# Altium footprint library PcbLib.PcbLib: 48 footprints (part 1 of 3)
Each footprint in its own frame and in the unit in brackets; x right, y up, seen from the top. Pads: shape width x height; smd on the part's side, far side on the other; paste and mask are expansions set on the pad; w line width, h text height; cw(c..) or ccw(c..) is an arc to the next point about the centre after c.
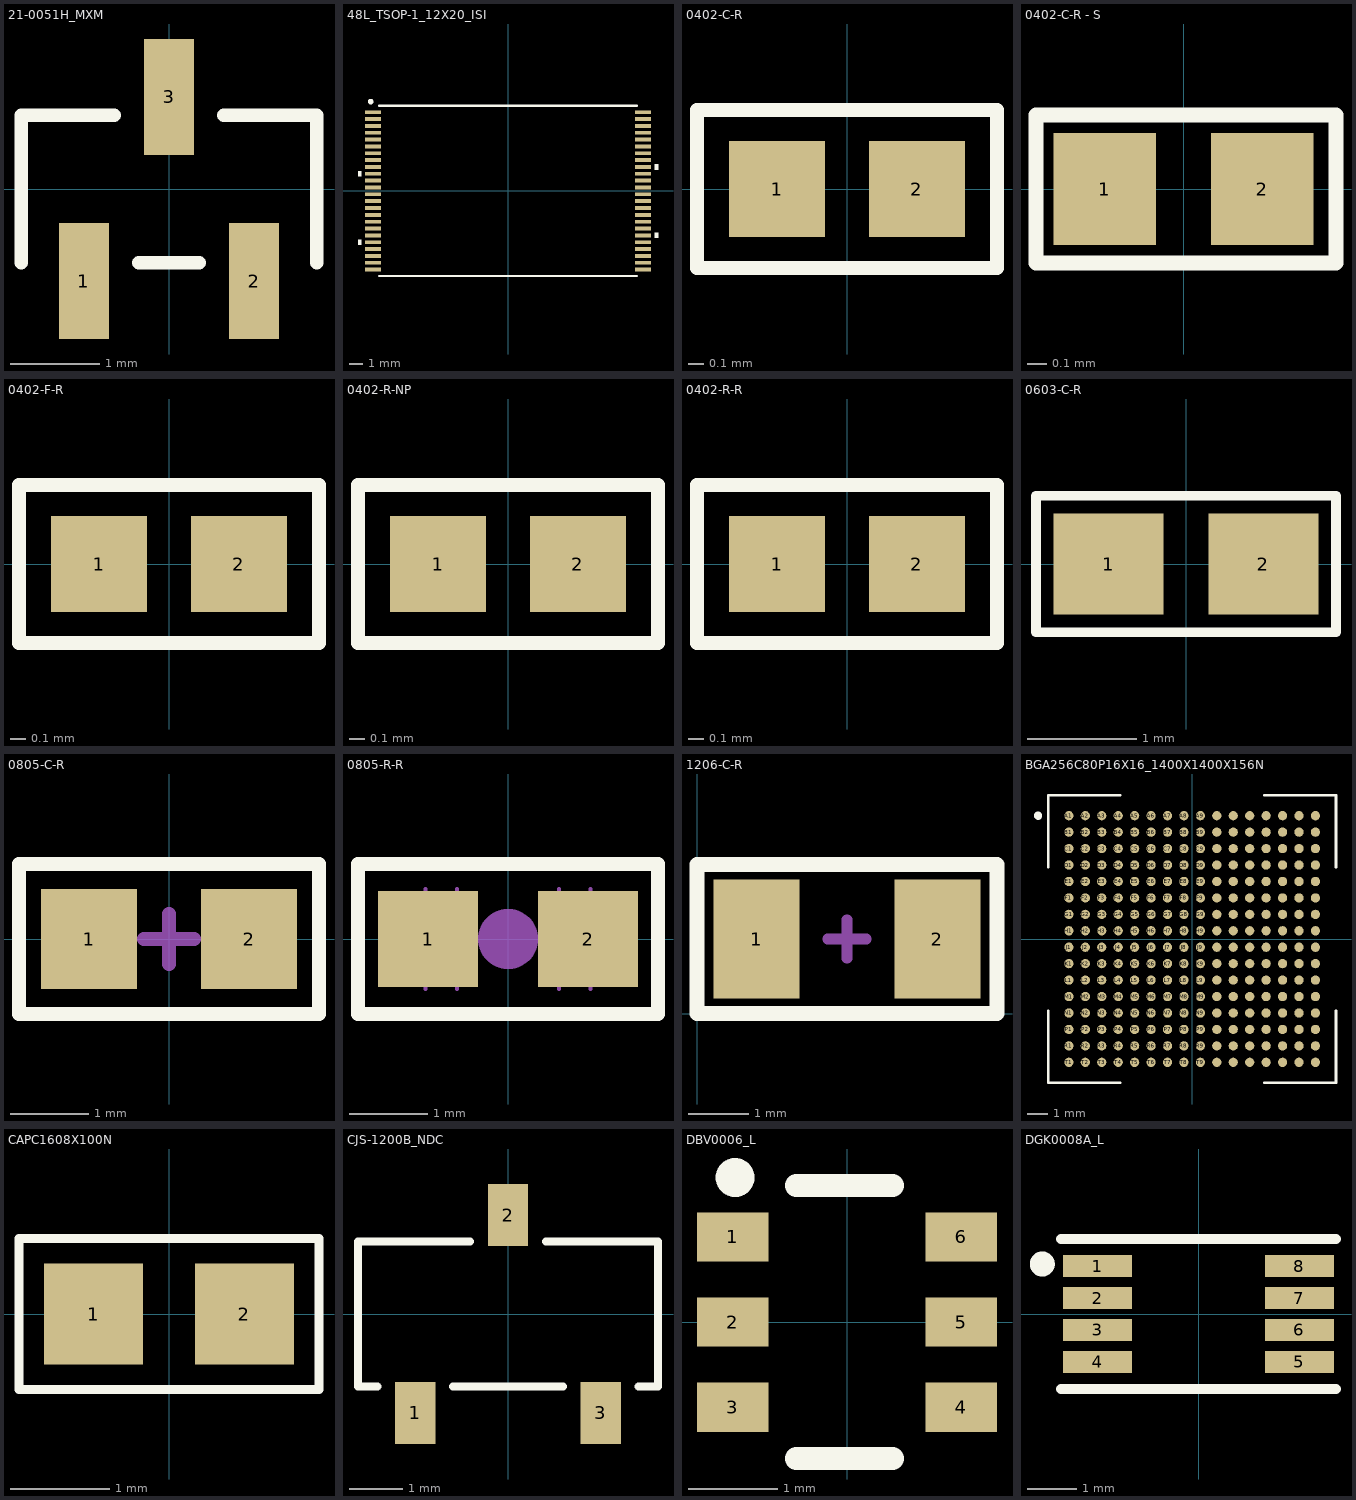
[diagram p0: the footprints below, top view; thin cyan lines are the x and y axes]

## 21-0051H_MXM [mil]
pads (3):
  rect 22x51 smd paste+0 mask+0: 1(-37.4,-40.5) 2(37.4,-40.5) 3(0,40.5)
Top Overlay:
  lines w6: -65,-32.5 -65,32.5 -24.1,32.5 ; -13.3,-32.5 13.3,-32.5 ; 24.1,32.5 65,32.5 65,-32.5
3D body "21-0051H_MXM.step": height 44.09, standoff 0, extent -60,-52.01 60,52.01

## 48L_TSOP-1_12X20_ISI [mil]
pads (48):
  rect 45.5x11 smd paste+0 mask+0: 1(-388.75,226.38) 2(-388.75,206.69) 3(-388.75,187.01) 4(-388.75,167.32) 5(-388.75,147.64) 6(-388.75,127.95) 7(-388.75,108.27) 8(-388.75,88.58) 9(-388.75,68.9) 10(-388.75,49.21) 11(-388.75,29.53) 12(-388.75,9.84) 13(-388.75,-9.84) 14(-388.75,-29.53) 15(-388.75,-49.21) 16(-388.75,-68.9) 17(-388.75,-88.58) 18(-388.75,-108.27) 19(-388.75,-127.95) 20(-388.75,-147.64) 21(-388.75,-167.32) 22(-388.75,-187.01) 23(-388.75,-206.69) 24(-388.75,-226.38) 25(388.75,-226.38) 26(388.75,-206.69) 27(388.75,-187.01) 28(388.75,-167.32) 29(388.75,-147.64) 30(388.75,-127.95) 31(388.75,-108.27) 32(388.75,-88.58) 33(388.75,-68.9) 34(388.75,-49.21) 35(388.75,-29.53) 36(388.75,-9.84) 37(388.75,9.84) 38(388.75,29.53) 39(388.75,49.21) 40(388.75,68.9) 41(388.75,88.58) 42(388.75,108.27) 43(388.75,127.95) 44(388.75,147.64) 45(388.75,167.32) 46(388.75,187.01) 47(388.75,206.69) 48(388.75,226.38)
Top Overlay:
  circle w10: c-395,257 r3
  region: -421.5,56.71 -431.5,56.71 -431.5,41.71 -421.5,41.71
  region: -421.5,-140.14 -431.5,-140.14 -431.5,-155.14 -421.5,-155.14
  region: 421.5,-120.45 431.5,-120.45 431.5,-135.45 421.5,-135.45
  region: 421.5,76.4 431.5,76.4 431.5,61.4 421.5,61.4
  lines w6: -371,-245 371,-245 ; -371,245 371,245
3D body "48L_TSOP-1_12X20_ISI.step": height 47.09, standoff 0, extent -397.52,-240 397.52,240

## 0402-C-R [mm]
height 1.52
pads (2):
  rect 0.62x0.62 smd: 1(-0.45,0) 2(0.45,0)
Top Overlay:
  lines w0.089: -0.965,-0.508 -0.965,0.508 0.965,0.508 0.965,-0.508 -0.965,-0.508
3D body "C0402C104K3RACTU.step": height 0.55, standoff 0, extent -0.518,-0.271 0.532,0.279

## 0402-C-R - S [mm]
height 1.52
pads (2):
  rect 0.52x0.57 smd mask+0: 1(-0.4,0) 2(0.4,0)
Top Overlay:
  lines w0.076: -0.75,-0.375 -0.75,0.375 0.775,0.375 0.775,-0.375 -0.75,-0.375
3D body "C0402C104K3RACTU.step": height 0.55, standoff 0, extent -0.525,-0.275 0.525,0.275

## 0402-F-R [mm]
height 1.52
pads (2):
  rect 0.62x0.62 smd: 1(-0.45,0) 2(0.45,0)
Top Overlay:
  lines w0.089: -0.965,-0.508 0.965,-0.508 0.965,0.508 -0.965,0.508 -0.965,-0.508
3D body "FB_1005.STEP": height 0.5, standoff 0, extent -0.5,-0.25 0.5,0.25

## 0402-R-NP [mm]
height 1.52
pads (2):
  rect 0.62x0.62 smd: 1(-0.45,0) 2(0.45,0)
Top Overlay:
  lines w0.089: -0.965,-0.508 0.965,-0.508 0.965,0.508 -0.965,0.508 -0.965,-0.508

## 0402-R-R [mm]
height 1.52
pads (2):
  rect 0.62x0.62 smd: 1(-0.45,0) 2(0.45,0)
Top Overlay:
  lines w0.089: -0.965,-0.508 -0.965,0.508 0.965,0.508 0.965,-0.508 -0.965,-0.508
3D body "User Library-User Library-RES0402-2.STEP": height 0.35, standoff 0, extent -0.5,-0.25 0.5,0.25

## 0603-C-R [mm]
pads (2):
  rect 1.01x0.93 smd: 1(-0.709,0) 2(0.709,0)
Top Overlay:
  lines w0.089: -1.375,-0.625 -1.375,0.625 1.375,0.625 1.375,-0.625 -1.375,-0.625
3D body "step_temp.STEP": height 1, standoff 0, extent -0.8,-0.4 0.8,0.4

## 0805-C-R [mil]
height 59.84
pads (2):
  rect 48x50 smd: 1(-40,0) 2(40,0)
Top Overlay:
  lines w7: -75,-37.5 -75,37.5 75,37.5 75,-37.5 -75,-37.5
Mechanical 16:
  lines w7: -12.5,0 12.5,0 ; 0,-12.5 0,12.5
3D body "0805 SMD Capacitor.STEP": height 30.79, standoff 0, extent -38.37,-24.21 40.37,25

## 0805-R-R [mil]
height 59.84
pads (2):
  rect 50x48 smd: 1(-40,0) 2(40,0)
Top Overlay:
  lines w7: -75,-37.5 75,-37.5 75,37.5 -75,37.5 -75,-37.5
Mechanical 9:
  circle w20: c0,0 r5
Mechanical 11:
  lines w2: -41.34,-25 -41.34,25 ; -25.59,-25 -25.59,25 ; 25.59,-25 25.59,25 ; 41.34,-25 41.34,25
3D body "SW3dPS-0805 SMD Resistor.STEP": height 30.79, standoff 0, extent -39.37,-24 39.37,25.21

## 1206-C-R [mm]
height 1.52
pads (2):
  rect 1.42x1.96 smd: 1(0.985,1.23) 2(3.965,1.23)
Top Overlay:
  lines w0.254: 0,0 0,2.46 4.95,2.46 4.95,0 0,0
Mechanical 16:
  lines w0.178: 2.157,1.23 2.792,1.23 ; 2.475,0.913 2.475,1.548
3D body "C1206X335K8RACAUTO.step": height 1.2, standoff 0, extent 0.614,0.254 4.314,2.204

## BGA256C80P16X16_1400X1400X156N [mm]
pads (256):
  round 0.45 smd: A1(-6,6) A2(-5.2,6) A3(-4.4,6) A4(-3.6,6) A5(-2.8,6) A6(-2,6) A7(-1.2,6) A8(-0.4,6) A9(0.4,6) A10(1.2,6) A11(2,6) A12(2.8,6) A13(3.6,6) A14(4.4,6) A15(5.2,6) A16(6,6) B1(-6,5.2) B2(-5.2,5.2) B3(-4.4,5.2) B4(-3.6,5.2) B5(-2.8,5.2) B6(-2,5.2) B7(-1.2,5.2) B8(-0.4,5.2) B9(0.4,5.2) B10(1.2,5.2) B11(2,5.2) B12(2.8,5.2) B13(3.6,5.2) B14(4.4,5.2) B15(5.2,5.2) B16(6,5.2) C1(-6,4.4) C2(-5.2,4.4) C3(-4.4,4.4) C4(-3.6,4.4) C5(-2.8,4.4) C6(-2,4.4) C7(-1.2,4.4) C8(-0.4,4.4) C9(0.4,4.4) C10(1.2,4.4) C11(2,4.4) C12(2.8,4.4) C13(3.6,4.4) C14(4.4,4.4) C15(5.2,4.4) C16(6,4.4) D1(-6,3.6) D2(-5.2,3.6) D3(-4.4,3.6) D4(-3.6,3.6) D5(-2.8,3.6) D6(-2,3.6) D7(-1.2,3.6) D8(-0.4,3.6) D9(0.4,3.6) D10(1.2,3.6) D11(2,3.6) D12(2.8,3.6) D13(3.6,3.6) D14(4.4,3.6) D15(5.2,3.6) D16(6,3.6) E1(-6,2.8) E2(-5.2,2.8) E3(-4.4,2.8) E4(-3.6,2.8) E5(-2.8,2.8) E6(-2,2.8) E7(-1.2,2.8) E8(-0.4,2.8) E9(0.4,2.8) E10(1.2,2.8) E11(2,2.8) E12(2.8,2.8) E13(3.6,2.8) E14(4.4,2.8) E15(5.2,2.8) E16(6,2.8) F1(-6,2) F2(-5.2,2) F3(-4.4,2) F4(-3.6,2) F5(-2.8,2) F6(-2,2) F7(-1.2,2) F8(-0.4,2) F9(0.4,2) F10(1.2,2) F11(2,2) F12(2.8,2) F13(3.6,2) F14(4.4,2) F15(5.2,2) F16(6,2) G1(-6,1.2) G2(-5.2,1.2) G3(-4.4,1.2) G4(-3.6,1.2) G5(-2.8,1.2) G6(-2,1.2) G7(-1.2,1.2) G8(-0.4,1.2) G9(0.4,1.2) G10(1.2,1.2) G11(2,1.2) G12(2.8,1.2) G13(3.6,1.2) G14(4.4,1.2) G15(5.2,1.2) G16(6,1.2) H1(-6,0.4) H2(-5.2,0.4) H3(-4.4,0.4) H4(-3.6,0.4) H5(-2.8,0.4) H6(-2,0.4) H7(-1.2,0.4) H8(-0.4,0.4) H9(0.4,0.4) H10(1.2,0.4) H11(2,0.4) H12(2.8,0.4) H13(3.6,0.4) H14(4.4,0.4) H15(5.2,0.4) H16(6,0.4) J1(-6,-0.4) J2(-5.2,-0.4) J3(-4.4,-0.4) J4(-3.6,-0.4) J5(-2.8,-0.4) J6(-2,-0.4) J7(-1.2,-0.4) J8(-0.4,-0.4) J9(0.4,-0.4) J10(1.2,-0.4) J11(2,-0.4) J12(2.8,-0.4) J13(3.6,-0.4) J14(4.4,-0.4) J15(5.2,-0.4) J16(6,-0.4) K1(-6,-1.2) K2(-5.2,-1.2) K3(-4.4,-1.2) K4(-3.6,-1.2) K5(-2.8,-1.2) K6(-2,-1.2) K7(-1.2,-1.2) K8(-0.4,-1.2) K9(0.4,-1.2) K10(1.2,-1.2) K11(2,-1.2) K12(2.8,-1.2) K13(3.6,-1.2) K14(4.4,-1.2) K15(5.2,-1.2) K16(6,-1.2) L1(-6,-2) L2(-5.2,-2) L3(-4.4,-2) L4(-3.6,-2) L5(-2.8,-2) L6(-2,-2) L7(-1.2,-2) L8(-0.4,-2) L9(0.4,-2) L10(1.2,-2) L11(2,-2) L12(2.8,-2) L13(3.6,-2) L14(4.4,-2) L15(5.2,-2) L16(6,-2) M1(-6,-2.8) M2(-5.2,-2.8) M3(-4.4,-2.8) M4(-3.6,-2.8) M5(-2.8,-2.8) M6(-2,-2.8) M7(-1.2,-2.8) M8(-0.4,-2.8) M9(0.4,-2.8) M10(1.2,-2.8) M11(2,-2.8) M12(2.8,-2.8) M13(3.6,-2.8) M14(4.4,-2.8) M15(5.2,-2.8) M16(6,-2.8) N1(-6,-3.6) N2(-5.2,-3.6) N3(-4.4,-3.6) N4(-3.6,-3.6) N5(-2.8,-3.6) N6(-2,-3.6) N7(-1.2,-3.6) N8(-0.4,-3.6) N9(0.4,-3.6) N10(1.2,-3.6) N11(2,-3.6) N12(2.8,-3.6) N13(3.6,-3.6) N14(4.4,-3.6) N15(5.2,-3.6) N16(6,-3.6) P1(-6,-4.4) P2(-5.2,-4.4) P3(-4.4,-4.4) P4(-3.6,-4.4) P5(-2.8,-4.4) P6(-2,-4.4) P7(-1.2,-4.4) P8(-0.4,-4.4) P9(0.4,-4.4) P10(1.2,-4.4) P11(2,-4.4) P12(2.8,-4.4) P13(3.6,-4.4) P14(4.4,-4.4) P15(5.2,-4.4) P16(6,-4.4) R1(-6,-5.2) R2(-5.2,-5.2) R3(-4.4,-5.2) R4(-3.6,-5.2) R5(-2.8,-5.2) R6(-2,-5.2) R7(-1.2,-5.2) R8(-0.4,-5.2) R9(0.4,-5.2) R10(1.2,-5.2) R11(2,-5.2) R12(2.8,-5.2) R13(3.6,-5.2) R14(4.4,-5.2) R15(5.2,-5.2) R16(6,-5.2) T1(-6,-6) T2(-5.2,-6) T3(-4.4,-6) T4(-3.6,-6) T5(-2.8,-6) T6(-2,-6) T7(-1.2,-6) T8(-0.4,-6) T9(0.4,-6) T10(1.2,-6) T11(2,-6) T12(2.8,-6) T13(3.6,-6) T14(4.4,-6) T15(5.2,-6) T16(6,-6)
Top Overlay:
  circle w0.2: c-7.5,6 r0.1
  lines w0.127: -7,-3.5 -7,-7 -3.5,-7 ; -7,3.5 -7,7 -3.5,7 ; 3.5,-7 7,-7 7,-3.5 ; 3.5,7 7,7 7,3.5
3D body "M2S025-VFG256I--3DModel-STEP-56544.STEP": height 1.56, standoff 0, extent -7,-7 7,7

## CAPC1608X100N [mm]
pads (2):
  rect 1x1.02 smd: 1(-0.759,0) 2(0.759,0)
Top Overlay:
  lines w0.089: -1.508,-0.758 1.508,-0.758 1.508,0.758 -1.508,0.758 -1.508,-0.758
3D body "GRM188Z71A106KA73D.step": height 1, standoff 0, extent -0.8,-0.4 0.8,0.4

## CJS-1200B_NDC [mil]
pads (3):
  rect 30x46 smd paste+0 mask+0: 1(-68.9,-73.5) 2(0,73.5) 3(68.9,-73.5)
Top Overlay:
  lines w6: -97,-54 -111.5,-54 -111.5,54 -28.1,54 ; -40.8,-54 40.8,-54 ; 28.1,54 111.5,54 111.5,-54 97,-54
3D body "CJS-1200TB.stp": height 99.21, standoff 0, extent -106.3,-82.68 106.3,82.68

## DBV0006_L [mm]
pads (6):
  rect 0.8x0.55 smd paste+0 mask+0: 1(-1.275,0.95) 2(-1.275,0) 3(-1.275,-0.95) 4(1.275,-0.95) 5(1.275,0) 6(1.275,0.95)
Top Overlay:
  circle w0.254: c-1.25,1.614 r0.09
  lines w0.254: -0.567,-1.524 0.508,-1.524 ; -0.567,1.524 0.508,1.524
3D body "DBV0006A.stp": height 1.2, standoff 0, extent -1.4,-1.45 1.4,1.45

## DGK0008A_L [mm]
pads (8):
  rect 1.4x0.45 smd paste-0.102 mask+0.051: 1(-2.05,0.975) 2(-2.05,0.325) 3(-2.05,-0.325) 4(-2.05,-0.975) 5(2.05,-0.975) 6(2.05,-0.325) 7(2.05,0.325) 8(2.05,0.975)
Top Overlay:
  circle w0.254: c-3.175,1.016 r0.127
  lines w0.2: -2.794,-1.524 2.794,-1.524 ; -2.794,1.524 2.794,1.524
3D body "DGK0008A.stp": height 1.1, standoff 0, extent -2.451,-1.499 2.451,1.499